# EAGLE library part 2X4 (library headers(2mm))
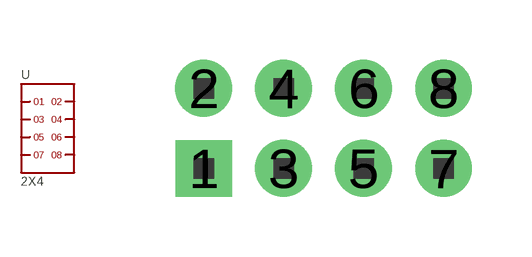
[diagram p4: symbol with the pads of 2X4; footprint 2X4]

Designator prefix -

## 2X4  [2X4]
1  1
2  2
3  3
4  4
5  5
6  6
7  7
8  8

## Footprint 2X4 (pad centres in mm)
drill 0.8 pad 1.422 square: 1 -3,-1
drill 0.8 pad 1.422: 2 -3,1; 3 -1,-1; 4 -1,1; 5 1,-1; 6 1,1; 7 3,-1; 8 3,1